# Altium schematic symbol library MCP6001T.SchLib: 1 symbol
Pins are listed as number, name and electrical type; pins without a type are passive.

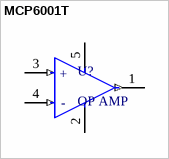
[diagram p0: symbol MCP6001T]

## MCP6001T
designator U?, comment OP AMP
footprint SOT-23-5
pins: 1 VOUT (out), 2 VSS (power), 3 VIN+ (in), 4 VIN- (in), 5 VDD (power)
text: +; -